# Altium schematic symbol library Crystal.SchLib: 3 symbols
Pins are listed as number, name and electrical type; pins without a type are passive.

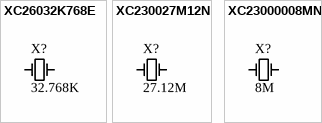
[diagram p0: symbols XC26032K768E to XC23000008MN]

## XC26032K768E
designator X?, comment value 32.768K  (hidden comment: Crystal)
Crystal 32.768K 3215; Manufacturer: EPSON; TemperatureRange: -40 to 85°C; PackageReference: 3215; Publisher: GreenBox; Published: 1-Jun-2017; MountType: SMT; PackageDescription: 3215; Body 3.2 x 1.5 x 0.8 mm
footprint 3215 (3215; Body 3.2 x 1.5 x 1.2 mm)
pins: 1 OSC1, 2 OSC2

## XC230027M12N
designator X?, comment value 27.12M  (hidden comment: Crystal)
Crystal 27.12M 5032 50PPM; Manufacturer: NDK; TemperatureRange: -40 to 150°C; PackageReference: 5032; Publisher: GreenBox; Published: 1-Jun-2017; MountType: SMT; VenderID: *; PackageDescription: 5032; Body 5.0 x 3.2 x 1.2 mm
footprint 5032 (5032; Body 5.0 x 3.2 x 1.2 mm)
pins: 1 OSC1, 2 OSC2

## XC23000008MN
designator X?, comment value 8M  (hidden comment: Crystal)
Crystal 8M 5032 50PPM; Manufacturer: NDK; VenderID: SMD5032-2PIN-8M-20P; TemperatureRange: -40 to 150°C; PackageReference: 5032; Publisher: GreenBox; Published: 1-Jun-2017; MountType: SMT; PackageDescription: 5032; Body 5.0 x 3.2 x 1.2 mm
footprint 5032 (5032; Body 5.0 x 3.2 x 1.2 mm)
pins: 1 OSC1, 2 OSC2